# Altium integrated library 1776266-4.IntLib: 1 symbol
Pins are listed as number, name and electrical type; pins without a type are passive.

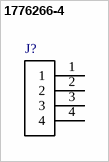
[diagram p0: symbol 1776266-4]

## 1776266-4
designator J?  (value not drawn)
/ Conn Terminal Block 4 POS 5mm Screw ST Cable Mount 10A/Contact /; MF: TE Connectivity; Availability: Unavailable; SnapEDA_Link: https://www.snapeda.com/parts/1776266-4/TE%20Connectivity%20AMP%20Connectors/view-part/?ref=snap; Price: None; Package: None; MP: 1776266-4; TE_purchase_URL: https://www.te.com/usa-en/product-1776266-4.html?te_bu=Cor&te_type=disp&te_campaign=seda_glo_cor-seda-global-disp-prtnr-fy19-seda-model-bom-cta_sma-317_1&elqCampaignId=32493; Value: *
footprint *TE_1776266-4
pins: 1, 2, 3, 4